# EAGLE library part H11L (library cTechnologies_optoElements)
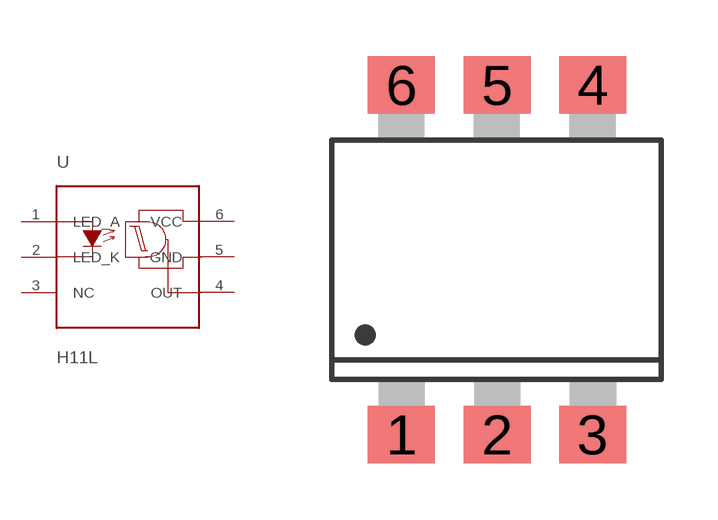
[diagram p0: symbol with the pads of SOP6; footprint SOP6]

Designator prefix U

## H11L1  [SOP6]
1  LED_A
2  LED_K
3  NC  nc
4  OUT
5  GND
6  VCC

## Footprint SOP6 (pad centres in mm)
DIL 6 SMD Source: http://www.fairchildsemi.com/pf/4N/4N35-M.html
smd 1.78 x 1.52: 1 -2.54,-4.645; 2 0,-4.645; 3 2.54,-4.645; 4 2.54,4.645; 5 0,4.645; 6 -2.54,4.645